# Altium schematic symbol library SCH - AMP AUDIO - ANALOG SSM2305RMZ-R2.SchLib: 1 symbol
Pins are listed as number, name and electrical type; pins without a type are passive.

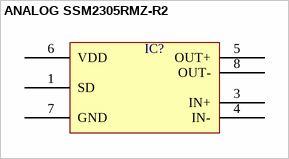
[diagram p0: symbol ANALOG SSM2305RMZ-R2]

## ANALOG SSM2305RMZ-R2
designator IC?  (value not drawn)
pins: 1 SD, 3 IN+, 4 IN-, 5 OUT+, 6 VDD, 7 GND, 8 OUT-